# Altium schematic symbol library STC89C52.SCHLIB: 1 symbol
Pins are listed as number, name and electrical type; pins without a type are passive.

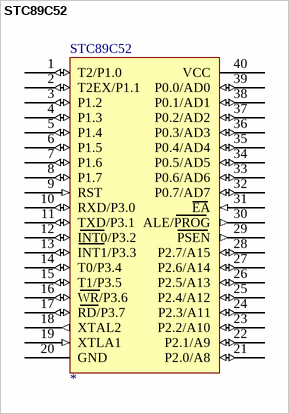
[diagram p0: symbol STC89C52]

## STC89C52
designator STC89C52
pins: 1 T2/P1.0 (io), 2 T2EX/P1.1 (io), 3 P1.2 (io), 4 P1.3 (io), 5 P1.4 (io), 6 P1.5 (io), 7 P1.6 (io), 8 P1.7 (io), 9 RST (in), 10 RXD/P3.0 (io), 11 TXD/P3.1 (io), 12 INT0/P3.2 (io), 13 INT1/P3.3 (io), 14 T0/P3.4 (io), 15 T1/P3.5 (io), 16 WR/P3.6 (io), 17 RD/P3.7 (io), 18 XTAL2 (out), 19 XTLA1 (in), 20 GND, 21 P2.0/A8 (io), 22 P2.1/A9 (io), 23 P2.2/A10 (io), 24 P2.3/A11 (io), 25 P2.4/A12 (io), 26 P2.5/A13 (io), 27 P2.6/A14 (io), 28 P2.7/A15 (io), 29 PSEN (out), 30 ALE/PROG (out), 31 EA (in), 32 P0.7/AD7 (io), 33 P0.6/AD6 (io), 34 P0.5/AD5 (io), 35 P0.4/AD4 (io), 36 P0.3/AD3 (io), 37 P0.2/AD2 (io), 38 P0.1/AD1 (io), 39 P0.0/AD0 (io), 40 VCC